# Altium footprint library HDMI-101S.PcbLib: 1 footprints
Each footprint in its own frame and in the unit in brackets; x right, y up, seen from the top. Pads: shape width x height; smd on the part's side, far side on the other; paste and mask are expansions set on the pad; w line width, h text height; cw(c..) or ccw(c..) is an arc to the next point about the centre after c.
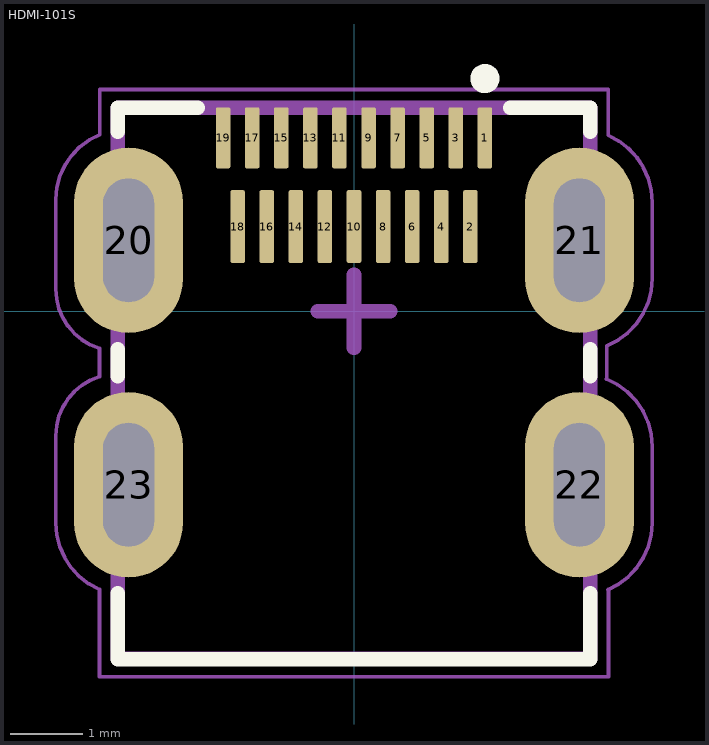
[diagram p0: the footprint, top view; thin cyan lines are the x and y axes]

## HDMI-101S [mm]
pads (23):
  rrect25% 0.2x0.84 smd mask+0.05: 1(1.8,2.385) 3(1.4,2.385) 5(1,2.385) 7(0.6,2.385) 9(0.2,2.385) 11(-0.2,2.385) 13(-0.6,2.385) 15(-1,2.385) 17(-1.4,2.385) 19(-1.8,2.385)
  rrect25% 0.2x1 smd mask+0.05: 2(1.6,1.165) 4(1.2,1.165) 6(0.8,1.165) 8(0.4,1.165) 10(0,1.165) 12(-0.4,1.165) 14(-0.8,1.165) 16(-1.2,1.165) 18(-1.6,1.165)
  oval 1.5x2.55 hole 0.7 slot 1.7 at 90 deg paste-2539.97 mask+0.05: 20(-3.1,0.975) 21(3.1,0.975) 22(3.1,-2.385) 23(-3.1,-2.385)
Top Overlay:
  circle w0.2: c1.8,3.2 r0.1
  lines w0.2: -3.25,-3.879 -3.25,-4.785 3.25,-4.785 3.25,-3.879 ; -3.25,-0.89 -3.25,-0.52 ; -3.25,2.47 -3.25,2.8 -2.146,2.8 ; 2.146,2.8 3.25,2.8 3.25,2.47 ; 3.25,-0.89 3.25,-0.52
Top Assembly:
  lines w0.2: -0.5,0 0.5,0 ; 0,-0.5 0,0.5 ; -3.25,-4.775 -3.25,2.8 3.25,2.8 3.25,-4.775 -3.25,-4.775
Top Courtyard:
  lines w0.05: -3.503,-0.511 cw(c-3.248,0.302) -4.1,0.302 -4.1,1.537 cw(c-3.143,1.537) -3.496,2.427 -3.495,3.05 3.495,3.05 3.495,2.427 ; -3.501,-3.826 cw(c-3.1,-2.91) -4.1,-2.91 -4.1,-1.71 cw(c-3.25,-1.71) -3.501,-0.898 -3.5,-0.511 ; -3.5,-3.825 -3.5,-5.025 3.5,-5.025 3.5,-3.825 ; 3.472,-0.932 cw(c3.1,-1.86) 4.1,-1.86 4.1,-2.91 cw(c3.1,-2.91) 3.492,-3.83 ; 3.475,-0.932 3.475,-0.475 ; 3.48,-0.475 ccw(c3.1,0.45) 4.1,0.45 4.1,1.5 ccw(c3.1,1.5) 3.497,2.418
Top Designator:
  text ".Designator" at -7.618,-1.237 h1.52
3D body "Micro_HDMI_Type-D.step": height 2.97, standoff -0.55, extent -3.25,-4.775 3.25,2.725